# Altium integrated library Linear Technology Power Management Switching Regulator LTC1174-LTC3901.IntLib: 2647 symbols (part 103 of 364)
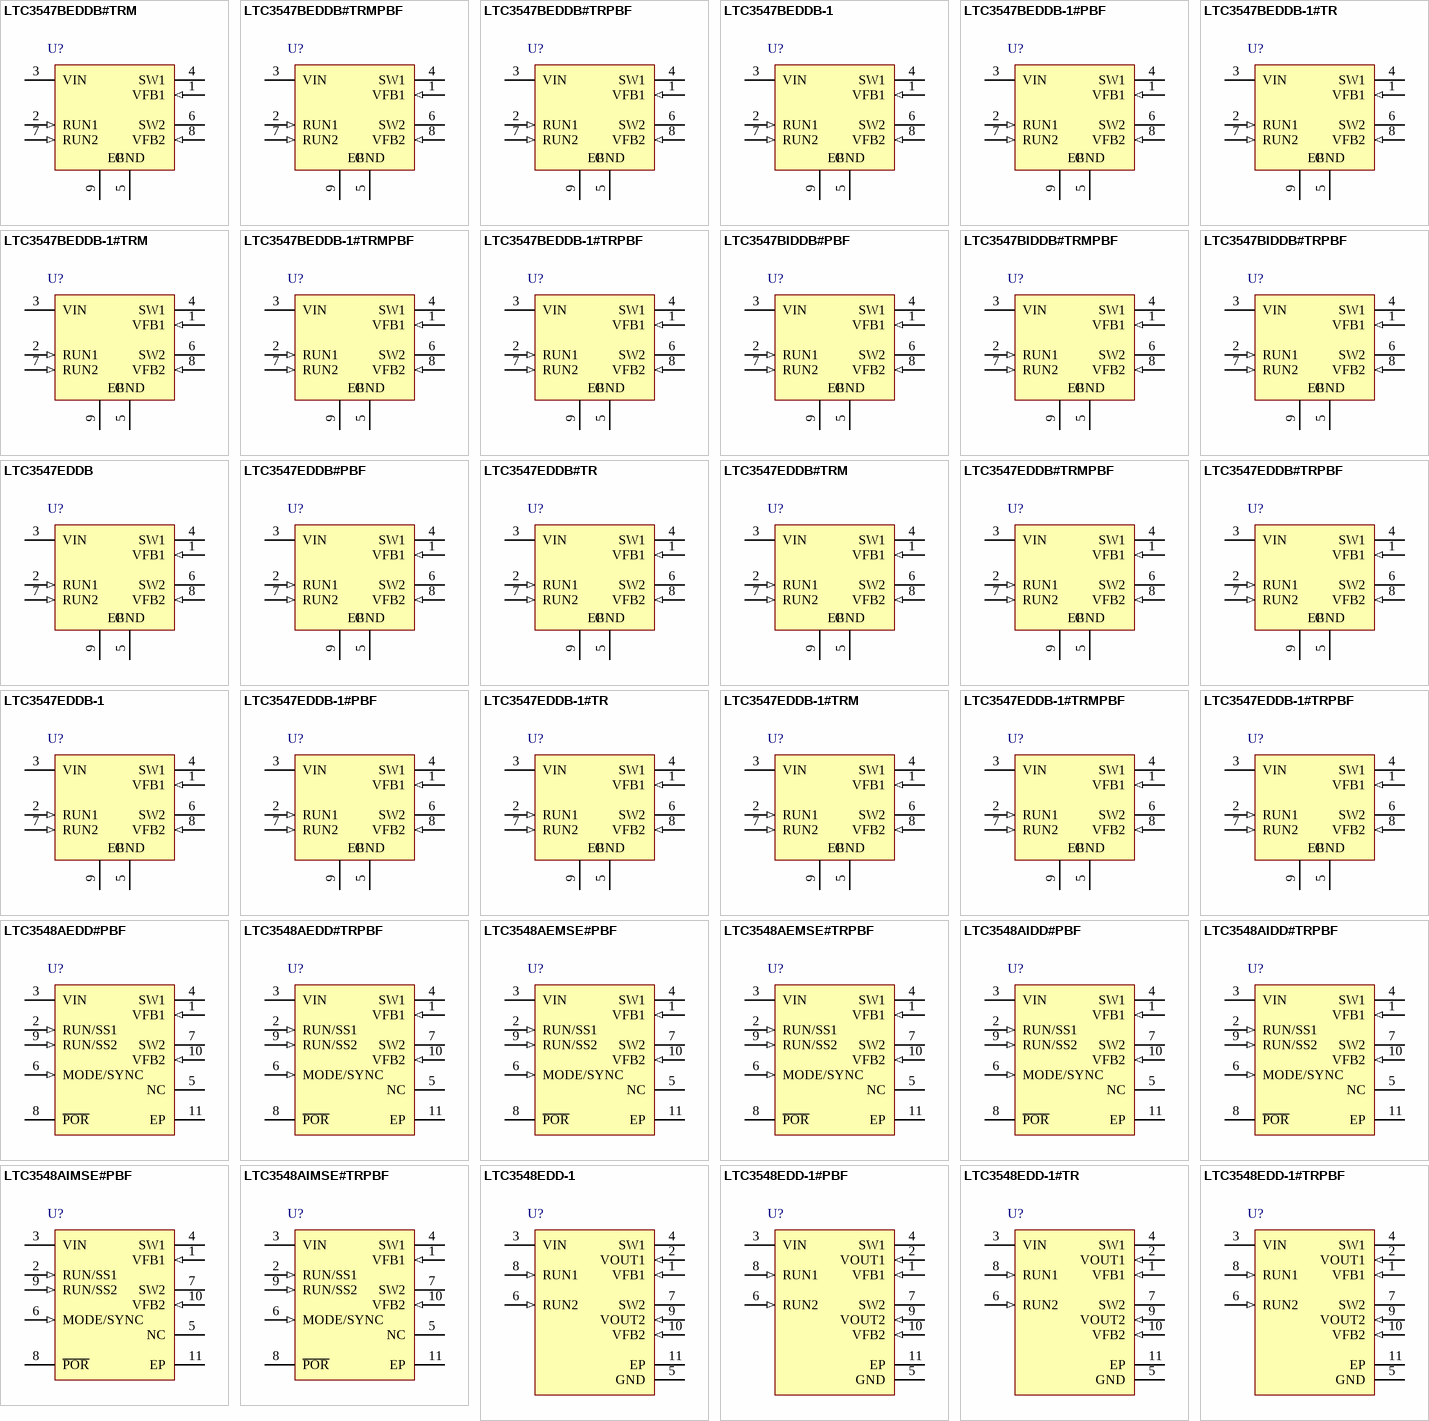
[diagram p267: symbols LTC3547BEDDB#TRM to LTC3548EDD-1#TRPBF]

## LTC3547EDDB-1
designator U?
Dual Monolithic 300 mA Synchronous Step-Down Regulator, 8-pin SON (DDB-8), -40 to 85 degC; Manufacturer: Linear Technology; PartNumber: LTC3547EDDB-1; Number of Outputs: 2; DatasheetVersion: Rev. A; PackageVersion: Rev. B, 06/2010; PackageReference: DDB-8; PackageDescription: 8-Pin Plastic DFN, Body 3 x 2 mm, Pitch 0.5 mm; RoHS: FALSE; Mounting Technology: Surface Mount; Code_JEDEC: MO-229; ComponentLink1Description: Manufacturer URL; ComponentLink1URL: http://www.linear.com/; ComponentLink2Description: Datasheet; ComponentLink2URL: http://cds.linear.com/docs/en/datasheet/3547fa.pdf; ComponentLink3Description: Package Specification; ComponentLink3URL: http://cds.linear.com/docs/en/packaging/DFN_8_05-08-1702.pdf
footprint LT-DDB-8_V (SON, 8-Leads, Body 3x2mm, Pitch 0.5mm, Thermal Pad 2.2x0.61mm)
pins: 1 VFB1 (in) "Regulator 1 Output Feedback. Receives the feedback voltage from the external resistor divider across the regulator 1 output. Nominal voltage for this pin is 0.6V.", 2 RUN1 (in) "Regulator 1 Enable. Forcing this pin to VIN enables regulator 1, while forcing it to GND causes regulator 1 to shut down.", 3 VIN (power) "Main Power Supply. Must be closely decoupled to GND.", 4 SW1 (power) "Regulator 1 Switch Node Connection to the Inductor. This pin swings from VIN to GND.", 5 GND (power) "Ground. Connect to the (-) terminal of COUT, and the (-) terminal of CIN.", 6 SW2 (power) "Regulator 2 Switch Node Connection to the Inductor. This pin swings from VIN to GND.", 7 RUN2 (in) "Regulator 2 Enable. Forcing this pin to VIN enables regulator 2, while forcing it to GND causes  regulator 2 to shut down.", 8 VFB2 (in) "Regulator 2 Output Feedback. Receives the feedback voltage from the external resistor divider across the regulator 2 output. Nominal voltage for this pin is 0.6V.", 9 EP (power) "Electrically Connected to GND. Must be soldered to the PCB for optimum thermal  performance."

## LTC3547EDDB-1#PBF
designator U?
Dual Monolithic 300 mA Synchronous Step-Down Regulator, 8-pin SON (DDB-8), -40 to 85 degC, Pb-Free; Manufacturer: Linear Technology; PartNumber: LTC3547EDDB-1#PBF; Number of Outputs: 2; DatasheetVersion: Rev. A; PackageVersion: Rev. B, 06/2010; PackageReference: DDB-8; PackageDescription: 8-Pin Plastic DFN, Body 3 x 2 mm, Pitch 0.5 mm; Supplier 1: Farnell; Supplier Part Number 1: 1329373; RoHS: TRUE; Mounting Technology: Surface Mount; Code_JEDEC: MO-229; ComponentLink1Description: Manufacturer URL; ComponentLink1URL: http://www.linear.com/; ComponentLink2Description: Datasheet; ComponentLink2URL: http://cds.linear.com/docs/en/datasheet/3547fa.pdf; ComponentLink3Description: Package Specification; ComponentLink3URL: http://cds.linear.com/docs/en/packaging/DFN_8_05-08-1702.pdf
footprint LT-DDB-8_V (SON, 8-Leads, Body 3x2mm, Pitch 0.5mm, Thermal Pad 2.2x0.61mm)
pins: 1 VFB1 (in) "Regulator 1 Output Feedback. Receives the feedback voltage from the external resistor divider across the regulator 1 output. Nominal voltage for this pin is 0.6V.", 2 RUN1 (in) "Regulator 1 Enable. Forcing this pin to VIN enables regulator 1, while forcing it to GND causes regulator 1 to shut down.", 3 VIN (power) "Main Power Supply. Must be closely decoupled to GND.", 4 SW1 (power) "Regulator 1 Switch Node Connection to the Inductor. This pin swings from VIN to GND.", 5 GND (power) "Ground. Connect to the (-) terminal of COUT, and the (-) terminal of CIN.", 6 SW2 (power) "Regulator 2 Switch Node Connection to the Inductor. This pin swings from VIN to GND.", 7 RUN2 (in) "Regulator 2 Enable. Forcing this pin to VIN enables regulator 2, while forcing it to GND causes  regulator 2 to shut down.", 8 VFB2 (in) "Regulator 2 Output Feedback. Receives the feedback voltage from the external resistor divider across the regulator 2 output. Nominal voltage for this pin is 0.6V.", 9 EP (power) "Electrically Connected to GND. Must be soldered to the PCB for optimum thermal  performance."

## LTC3547EDDB-1#TR
designator U?
Dual Monolithic 300 mA Synchronous Step-Down Regulator, 8-pin SON (DDB-8), -40 to 85 degC, Tape and Reel; Manufacturer: Linear Technology; PartNumber: LTC3547EDDB-1#TR; Number of Outputs: 2; DatasheetVersion: Rev. A; PackageVersion: Rev. B, 06/2010; PackageReference: DDB-8; PackageDescription: 8-Pin Plastic DFN, Body 3 x 2 mm, Pitch 0.5 mm; Packing: Tape and Reel; RoHS: FALSE; Mounting Technology: Surface Mount; Code_JEDEC: MO-229; ComponentLink1Description: Manufacturer URL; ComponentLink1URL: http://www.linear.com/; ComponentLink2Description: Datasheet; ComponentLink2URL: http://cds.linear.com/docs/en/datasheet/3547fa.pdf; ComponentLink3Description: Package Specification; ComponentLink3URL: http://cds.linear.com/docs/en/packaging/DFN_8_05-08-1702.pdf
footprint LT-DDB-8_V (SON, 8-Leads, Body 3x2mm, Pitch 0.5mm, Thermal Pad 2.2x0.61mm)
pins: 1 VFB1 (in) "Regulator 1 Output Feedback. Receives the feedback voltage from the external resistor divider across the regulator 1 output. Nominal voltage for this pin is 0.6V.", 2 RUN1 (in) "Regulator 1 Enable. Forcing this pin to VIN enables regulator 1, while forcing it to GND causes regulator 1 to shut down.", 3 VIN (power) "Main Power Supply. Must be closely decoupled to GND.", 4 SW1 (power) "Regulator 1 Switch Node Connection to the Inductor. This pin swings from VIN to GND.", 5 GND (power) "Ground. Connect to the (-) terminal of COUT, and the (-) terminal of CIN.", 6 SW2 (power) "Regulator 2 Switch Node Connection to the Inductor. This pin swings from VIN to GND.", 7 RUN2 (in) "Regulator 2 Enable. Forcing this pin to VIN enables regulator 2, while forcing it to GND causes  regulator 2 to shut down.", 8 VFB2 (in) "Regulator 2 Output Feedback. Receives the feedback voltage from the external resistor divider across the regulator 2 output. Nominal voltage for this pin is 0.6V.", 9 EP (power) "Electrically Connected to GND. Must be soldered to the PCB for optimum thermal  performance."

## LTC3547EDDB-1#TRM
designator U?
Dual Monolithic 300 mA Synchronous Step-Down Regulator, 8-pin SON (DDB-8), -40 to 85 degC, Mini Tape and Reel; Manufacturer: Linear Technology; PartNumber: LTC3547EDDB-1#TRM; Number of Outputs: 2; DatasheetVersion: Rev. A; PackageVersion: Rev. B, 06/2010; PackageReference: DDB-8; PackageDescription: 8-Pin Plastic DFN, Body 3 x 2 mm, Pitch 0.5 mm; Packing: Mini Tape and Reel; RoHS: FALSE; Mounting Technology: Surface Mount; Code_JEDEC: MO-229; ComponentLink1Description: Manufacturer URL; ComponentLink1URL: http://www.linear.com/; ComponentLink2Description: Datasheet; ComponentLink2URL: http://cds.linear.com/docs/en/datasheet/3547fa.pdf; ComponentLink3Description: Package Specification; ComponentLink3URL: http://cds.linear.com/docs/en/packaging/DFN_8_05-08-1702.pdf
footprint LT-DDB-8_V (SON, 8-Leads, Body 3x2mm, Pitch 0.5mm, Thermal Pad 2.2x0.61mm)
pins: 1 VFB1 (in) "Regulator 1 Output Feedback. Receives the feedback voltage from the external resistor divider across the regulator 1 output. Nominal voltage for this pin is 0.6V.", 2 RUN1 (in) "Regulator 1 Enable. Forcing this pin to VIN enables regulator 1, while forcing it to GND causes regulator 1 to shut down.", 3 VIN (power) "Main Power Supply. Must be closely decoupled to GND.", 4 SW1 (power) "Regulator 1 Switch Node Connection to the Inductor. This pin swings from VIN to GND.", 5 GND (power) "Ground. Connect to the (-) terminal of COUT, and the (-) terminal of CIN.", 6 SW2 (power) "Regulator 2 Switch Node Connection to the Inductor. This pin swings from VIN to GND.", 7 RUN2 (in) "Regulator 2 Enable. Forcing this pin to VIN enables regulator 2, while forcing it to GND causes  regulator 2 to shut down.", 8 VFB2 (in) "Regulator 2 Output Feedback. Receives the feedback voltage from the external resistor divider across the regulator 2 output. Nominal voltage for this pin is 0.6V.", 9 EP (power) "Electrically Connected to GND. Must be soldered to the PCB for optimum thermal  performance."

## LTC3547EDDB-1#TRMPBF
designator U?
Dual Monolithic 300 mA Synchronous Step-Down Regulator, 8-pin SON (DDB-8), -40 to 85 degC, Pb-Free, Mini Tape and Reel; Manufacturer: Linear Technology; PartNumber: LTC3547EDDB-1#TRMPBF; Number of Outputs: 2; DatasheetVersion: Rev. A; PackageVersion: Rev. B, 06/2010; PackageReference: DDB-8; PackageDescription: 8-Pin Plastic DFN, Body 3 x 2 mm, Pitch 0.5 mm; Supplier 1: Digi-Key; Supplier Part Number 1: LTC3547EDDB-1#TRMPBF-ND; Packing: Mini Tape and Reel; RoHS: TRUE; Mounting Technology: Surface Mount; Code_JEDEC: MO-229; ComponentLink1Description: Manufacturer URL; ComponentLink1URL: http://www.linear.com/; ComponentLink2Description: Datasheet; ComponentLink2URL: http://cds.linear.com/docs/en/datasheet/3547fa.pdf; ComponentLink3Description: Package Specification; ComponentLink3URL: http://cds.linear.com/docs/en/packaging/DFN_8_05-08-1702.pdf
footprint LT-DDB-8_V (SON, 8-Leads, Body 3x2mm, Pitch 0.5mm, Thermal Pad 2.2x0.61mm)
pins: 1 VFB1 (in) "Regulator 1 Output Feedback. Receives the feedback voltage from the external resistor divider across the regulator 1 output. Nominal voltage for this pin is 0.6V.", 2 RUN1 (in) "Regulator 1 Enable. Forcing this pin to VIN enables regulator 1, while forcing it to GND causes regulator 1 to shut down.", 3 VIN (power) "Main Power Supply. Must be closely decoupled to GND.", 4 SW1 (power) "Regulator 1 Switch Node Connection to the Inductor. This pin swings from VIN to GND.", 5 GND (power) "Ground. Connect to the (-) terminal of COUT, and the (-) terminal of CIN.", 6 SW2 (power) "Regulator 2 Switch Node Connection to the Inductor. This pin swings from VIN to GND.", 7 RUN2 (in) "Regulator 2 Enable. Forcing this pin to VIN enables regulator 2, while forcing it to GND causes  regulator 2 to shut down.", 8 VFB2 (in) "Regulator 2 Output Feedback. Receives the feedback voltage from the external resistor divider across the regulator 2 output. Nominal voltage for this pin is 0.6V.", 9 EP (power) "Electrically Connected to GND. Must be soldered to the PCB for optimum thermal  performance."

## LTC3547EDDB-1#TRPBF
designator U?
Dual Monolithic 300 mA Synchronous Step-Down Regulator, 8-pin SON (DDB-8), -40 to 85 degC, Pb-Free, Tape and Reel; Manufacturer: Linear Technology; PartNumber: LTC3547EDDB-1#TRPBF; Number of Outputs: 2; DatasheetVersion: Rev. A; PackageVersion: Rev. B, 06/2010; PackageReference: DDB-8; PackageDescription: 8-Pin Plastic DFN, Body 3 x 2 mm, Pitch 0.5 mm; Supplier 1: Digi-Key; Supplier Part Number 1: LTC3547EDDB-1#TRPBF-ND; Packing: Tape and Reel; RoHS: TRUE; Mounting Technology: Surface Mount; Code_JEDEC: MO-229; ComponentLink1Description: Manufacturer URL; ComponentLink1URL: http://www.linear.com/; ComponentLink2Description: Datasheet; ComponentLink2URL: http://cds.linear.com/docs/en/datasheet/3547fa.pdf; ComponentLink3Description: Package Specification; ComponentLink3URL: http://cds.linear.com/docs/en/packaging/DFN_8_05-08-1702.pdf
footprint LT-DDB-8_V (SON, 8-Leads, Body 3x2mm, Pitch 0.5mm, Thermal Pad 2.2x0.61mm)
pins: 1 VFB1 (in) "Regulator 1 Output Feedback. Receives the feedback voltage from the external resistor divider across the regulator 1 output. Nominal voltage for this pin is 0.6V.", 2 RUN1 (in) "Regulator 1 Enable. Forcing this pin to VIN enables regulator 1, while forcing it to GND causes regulator 1 to shut down.", 3 VIN (power) "Main Power Supply. Must be closely decoupled to GND.", 4 SW1 (power) "Regulator 1 Switch Node Connection to the Inductor. This pin swings from VIN to GND.", 5 GND (power) "Ground. Connect to the (-) terminal of COUT, and the (-) terminal of CIN.", 6 SW2 (power) "Regulator 2 Switch Node Connection to the Inductor. This pin swings from VIN to GND.", 7 RUN2 (in) "Regulator 2 Enable. Forcing this pin to VIN enables regulator 2, while forcing it to GND causes  regulator 2 to shut down.", 8 VFB2 (in) "Regulator 2 Output Feedback. Receives the feedback voltage from the external resistor divider across the regulator 2 output. Nominal voltage for this pin is 0.6V.", 9 EP (power) "Electrically Connected to GND. Must be soldered to the PCB for optimum thermal  performance."

## LTC3548AEDD#PBF
designator U?
Dual Synchronous 400 mA / 800 mA, 2.25 MHz Step-Down DC/DC Regulator, 10-pin SON (DD-10), -40 to 125 degC, Pb-Free; Manufacturer: Linear Technology; PartNumber: LTC3548AEDD#PBF; Number of Outputs: 2; DatasheetVersion: Rev. A; PackageVersion: Rev. C, 06/2010; PackageReference: DD-10; PackageDescription: 10-Pin Plastic DFN, Body 3 x 3 mm, Pitch 0.5 mm; Supplier 1: Digi-Key; Supplier Part Number 1: LTC3548AEDD#PBF-ND; Supplier 2: Newark; Supplier Part Number 2: 13T8342; RoHS: TRUE; Mounting Technology: Surface Mount; Code_JEDEC: MO-229; ComponentLink1Description: Manufacturer URL; ComponentLink1URL: http://www.linear.com/; ComponentLink2Description: Datasheet; ComponentLink2URL: http://cds.linear.com/docs/en/datasheet/3548afa.pdf; ComponentLink3Description: Package Specification; ComponentLink3URL: http://cds.linear.com/docs/en/packaging/DFN_10_05-08-1699.pdf
footprint LT-DD-10_V (SON, 10-Leads, Body 3x3mm, Pitch 0.5mm, Thermal Pad 2.38x1.65mm)
pins: 1 VFB1 (in) "Output Feedback. Receives the feedback voltage from the external resistive divider across the output. Nominal voltage for this pin is 0.6V.", 2 RUN/SS1 (in) "Regulator 1 Enable and Soft-Start Input. Forcing this pin to VIN enables regulator 1, while forcing it to GND causes regulator 1 to shut down. Connect external RC network with desired time-constant to enable soft-start (See Datasheet)", 3 VIN (power) "Main Power Supply. Must be closely decoupled to GND.", 4 SW1 (power) "Regulator 1 Switch Node Connection to the Inductor. This pin swings from VIN to GND", 5 NC "No Connect. This pin is not connected internally. Connect to ground on PCB for shielding purposes", 6 MODE/SYNC (in) "Combination Mode Selection and Oscillator Synchronization. This pin controls the operation of the device. When tied to VIN or GND, Burst Mode operation or pulse-skipping mode is selected, respectively. Do not float this pin. (See Datasheet)", 7 SW2 (power) "Regulator 2 Switch Node Connection to the Inductor. This pin swings from VIN to GND.", 8 ~{POR} (oc) "Power-On Reset. This common-drain logic output is pulled to GND when the output voltage is not within +/-8.5% of regulation and goes high after 2^16 clock cycles when both channels are within regulation.", 9 RUN/SS2 (in) "Regulator 2 Enable and Soft-Start Input. Forcing this pin to VIN enables regulator 2, while forcing it to GND causes regulator 2 to shut down. Connect external RC network with desired time-constant to enable soft-start (See Datasheet)", 10 VFB2 (in) "Output Feedback. Receives the feedback voltage from the external resistive divider across the output. Nominal voltage for this pin is 0.6V.", 11 EP (power) "Power Ground. Connect to the (-) terminal of COUT, and (-) terminal of CIN. Must be soldered to electrical ground on PCB."

## LTC3548AEDD#TRPBF
designator U?
Dual Synchronous 400 mA / 800 mA, 2.25 MHz Step-Down DC/DC Regulator, 10-pin SON (DD-10), -40 to 125 degC, Pb-Free, Tape and Reel; Manufacturer: Linear Technology; PartNumber: LTC3548AEDD#TRPBF; Number of Outputs: 2; DatasheetVersion: Rev. A; PackageVersion: Rev. C, 06/2010; PackageReference: DD-10; PackageDescription: 10-Pin Plastic DFN, Body 3 x 3 mm, Pitch 0.5 mm; Supplier 1: Digi-Key; Supplier Part Number 1: LTC3548AEDD#TRPBF-ND; Supplier 2: Newark; Supplier Part Number 2: 13T8343; Packing: Tape and Reel; RoHS: TRUE; Mounting Technology: Surface Mount; Code_JEDEC: MO-229; ComponentLink1Description: Manufacturer URL; ComponentLink1URL: http://www.linear.com/; ComponentLink2Description: Datasheet; ComponentLink2URL: http://cds.linear.com/docs/en/datasheet/3548afa.pdf; ComponentLink3Description: Package Specification; ComponentLink3URL: http://cds.linear.com/docs/en/packaging/DFN_10_05-08-1699.pdf
footprint LT-DD-10_V (SON, 10-Leads, Body 3x3mm, Pitch 0.5mm, Thermal Pad 2.38x1.65mm)
pins: 1 VFB1 (in) "Output Feedback. Receives the feedback voltage from the external resistive divider across the output. Nominal voltage for this pin is 0.6V.", 2 RUN/SS1 (in) "Regulator 1 Enable and Soft-Start Input. Forcing this pin to VIN enables regulator 1, while forcing it to GND causes regulator 1 to shut down. Connect external RC network with desired time-constant to enable soft-start (See Datasheet)", 3 VIN (power) "Main Power Supply. Must be closely decoupled to GND.", 4 SW1 (power) "Regulator 1 Switch Node Connection to the Inductor. This pin swings from VIN to GND", 5 NC "No Connect. This pin is not connected internally. Connect to ground on PCB for shielding purposes", 6 MODE/SYNC (in) "Combination Mode Selection and Oscillator Synchronization. This pin controls the operation of the device. When tied to VIN or GND, Burst Mode operation or pulse-skipping mode is selected, respectively. Do not float this pin. (See Datasheet)", 7 SW2 (power) "Regulator 2 Switch Node Connection to the Inductor. This pin swings from VIN to GND.", 8 ~{POR} (oc) "Power-On Reset. This common-drain logic output is pulled to GND when the output voltage is not within +/-8.5% of regulation and goes high after 2^16 clock cycles when both channels are within regulation.", 9 RUN/SS2 (in) "Regulator 2 Enable and Soft-Start Input. Forcing this pin to VIN enables regulator 2, while forcing it to GND causes regulator 2 to shut down. Connect external RC network with desired time-constant to enable soft-start (See Datasheet)", 10 VFB2 (in) "Output Feedback. Receives the feedback voltage from the external resistive divider across the output. Nominal voltage for this pin is 0.6V.", 11 EP (power) "Power Ground. Connect to the (-) terminal of COUT, and (-) terminal of CIN. Must be soldered to electrical ground on PCB."